# EAGLE library part CON-M1.27X14 (library Fuzzy)
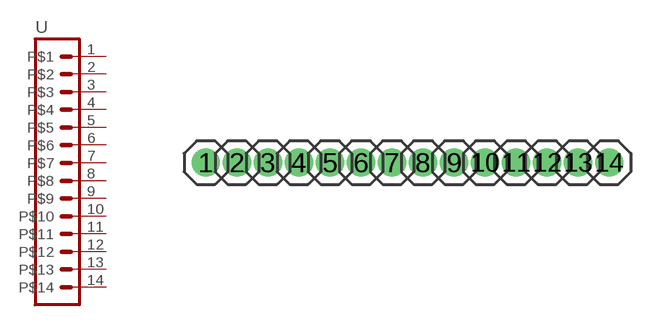
[diagram p5: symbol with the pads of M1.27-14; footprint M1.27-14]

Designator prefix -

## CON-M1.27X14  [M1.27-14]
1  P$1
2  P$2
3  P$3
4  P$4
5  P$5
6  P$6
7  P$7
8  P$8
9  P$9
10  P$10
11  P$11
12  P$12
13  P$13
14  P$14

## Footprint M1.27-14 (pad centres in mm)
drill 0.65 pad 1: 1 -7.62,0; 2 -6.35,0; 3 -5.08,0; 4 -3.81,0; 5 -2.54,0; 6 -1.27,0; 7 0,0; 8 1.27,0; 9 2.54,0; 10 3.81,0; 11 5.08,0; 12 6.35,0; 13 7.62,0; 14 8.89,0